# Altium schematic symbol library SOT-89 HT7533-1.Schlib: 1 symbol
Pins are listed as number, name and electrical type; pins without a type are passive.

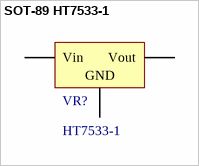
[diagram p0: symbol SOT-89 HT7533-1]

## SOT-89 HT7533-1
designator VR?, comment HT7533-1
低压差线性稳压(LDO)
footprint SOT-89(SOT-89-3)
pins: 1 GND, 2 Vin, 3 Vout